# Altium footprint library Diode-1N5822.PcbLib: 1 footprints
Each footprint in its own frame and in the unit in brackets; x right, y up, seen from the top. Pads: shape width x height; smd on the part's side, far side on the other; paste and mask are expansions set on the pad; w line width, h text height; cw(c..) or ccw(c..) is an arc to the next point about the centre after c.
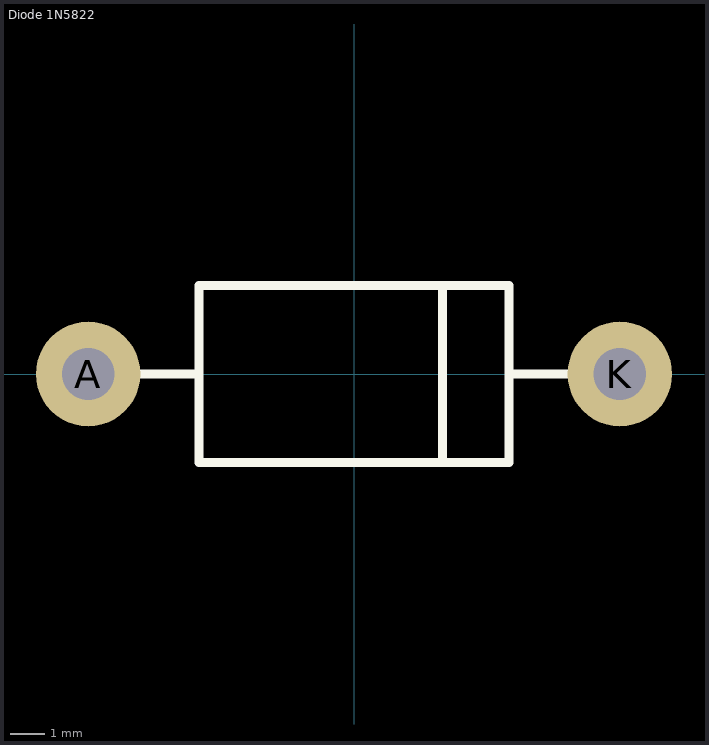
[diagram p0: the footprint, top view; thin cyan lines are the x and y axes]

## Diode 1N5822 [mm] "Diode 1N5822"
pads (2):
  round 3 hole 1.5: A(-7.62,0) K(7.62,0)
Top Overlay:
  lines w0.254: -7.62,0 -4.445,0 ; 2.54,-2.54 2.54,2.413 ; 4.445,0 7.62,0 ; -4.445,-2.54 -4.445,2.54 4.445,2.54 4.445,-2.54 -4.445,-2.54
3D body "Diodo 1N5822.STEP": height 5.66, standoff -3, extent -8.27,-2.667 8.27,2.653